# EAGLE library part 2X1MM-RESARRAY (library ClintonLib)
Specifically, CAY10 series by Bourns
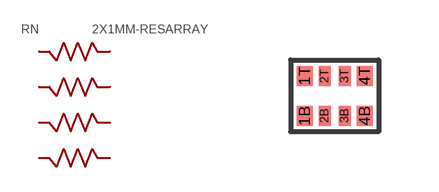
[diagram p35: symbol with the pads of 2X1MM-RES-ARRAY; footprint 2X1MM-RES-ARRAY]

Designator prefix RN

## 2X1MM-RESARRAY (VALUE: 10k)  [2X1MM-RES-ARRAY]
1B  L1
1T  R1
2B  L2
2T  R2
3B  L3
3T  R3
4B  L4
4T  R4

## Footprint 2X1MM-RES-ARRAY (pad centres in mm)
Specifically, the CAY10 series by Bourns
smd 0.4 x 0.5: 1B -0.75,-0.5; 1T -0.75,0.5; 4B 0.75,-0.5; 4T 0.75,0.5
smd 0.3 x 0.5: 2B -0.25,-0.5; 2T -0.25,0.5; 3B 0.25,-0.5; 3T 0.25,0.5